# Altium schematic symbol library ICs-DigitalAnalogConverters.SchLib: 2 symbols
Pins are listed as number, name and electrical type; pins without a type are passive.

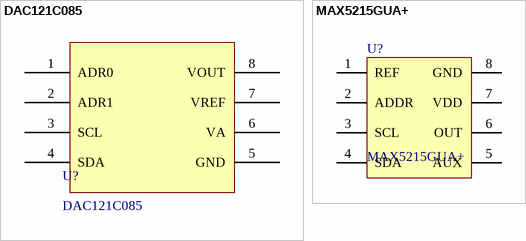
[diagram p0: symbols DAC121C085 to MAX5215GUA+]

## DAC121C085
designator U?
12 Bit Digital to Analog Converter; Manufacturer: Texas Instruments; Mounting Technology: Surface Mount; PartNumber: DAC121C085; PackageReference: VSSOP-8
footprint TSSOP-8 (TSOP, 8-Leads, Body 3.00x3.00mm, Pitch 0.65mm, IPC Medium Density)
pins: 1 ADR0, 2 ADR1, 3 SCL, 4 SDA, 5 GND, 6 VA, 7 VREF, 8 VOUT

## MAX5215GUA+
designator U?
14 Bit Digital to Analog Converter; Manufacturer: Maxim Integrated; PartNumber: MAX5215GUA+; Mounting Technology: Surface Mount; PackageReference: MSOP-8
footprint MSOP-8 (SOP, 8-Leads, Body 3x3mm, Pitch 0.65mm, IPC Medium Density)
pins: 1 REF, 2 ADDR, 3 SCL, 4 SDA, 5 AUX, 6 OUT, 7 VDD (power), 8 GND (power)